# Altium footprint library PCB_LED-Matrix2.PcbLib: 4 footprints
Each footprint in its own frame and in the unit in brackets; x right, y up, seen from the top. Pads: shape width x height; smd on the part's side, far side on the other; paste and mask are expansions set on the pad; w line width, h text height; cw(c..) or ccw(c..) is an arc to the next point about the centre after c.
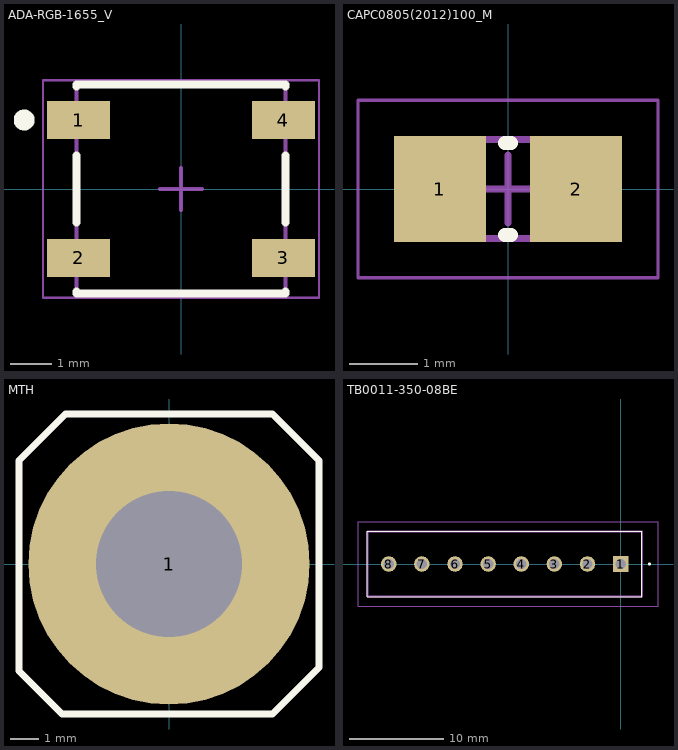
[diagram p0: the footprints below, top view; thin cyan lines are the x and y axes]

## ADA-RGB-1655_V [mm] "SMD, 4-Leads, Body 5x5mm"
pads (4):
  rect 1.5x0.9 smd: 1(-2.45,1.65) 2(-2.45,-1.65) 3(2.45,-1.65) 4(2.45,1.65)
Top Overlay:
  circle w0.25: c-3.75,1.65 r0.125
  lines w0.2: -2.5,-2.45 -2.5,-2.5 2.5,-2.5 2.5,-2.45 ; -2.5,-0.8 -2.5,0.8 ; -2.5,2.45 -2.5,2.5 2.5,2.5 2.5,2.45 ; 2.5,-0.8 2.5,0.8
Mechanical 13:
  lines w0.1: -2.5,-2.5 2.5,-2.5 2.5,2.5 -2.5,2.5 -2.5,-2.5
Mechanical 15:
  lines w0.05: -3.3,-2.6 -3.3,2.6 3.3,2.6 3.3,-2.6 -3.3,-2.6
  lines w0.1: -0.5,0 0.5,0 ; 0,-0.5 0,0.5
3D body "User Library-WS2812B.STEP": height 1.68, standoff -0.02, extent -2.7,-2.5 2.7,2.5

## CAPC0805(2012)100_M [mm] "Chip Capacitor, Body 2.0x1.2mm, Height 1.0mm, IPC Low Density"
height 1
pads (2):
  rect 1.35x1.55 smd: 1(-1,0) 2(1,0)
Top Overlay:
  lines w0.2: -0.05,-0.675 0.05,-0.675 ; -0.05,0.675 0.05,0.675
Mechanical 13:
  lines w0.1: -1.1,-0.725 -1.1,0.725 1.1,0.725 1.1,-0.725 -1.1,-0.725
Mechanical 15:
  lines w0.05: -2.2,-1.3 -2.2,1.3 2.2,1.3 2.2,-1.3 -2.2,-1.3
  lines w0.1: -0.5,0 0.5,0 ; 0,-0.5 0,0.5
3D body: height 1, standoff 0, extent -0.6,-0.725 0.6,0.725
3D body: height 1, standoff 0, extent -1.1,-0.725 -0.6,0.725
3D body: height 1, standoff 0, extent 0.6,-0.725 1.1,0.725

## MTH [mm]
pads (1):
  round 10 hole 5.2: 1(0,0)
Top Overlay:
  lines w0.254: -5.334,-3.81 -3.81,-5.334 3.683,-5.334 5.334,-3.683 5.334,3.683 3.683,5.334 1.143,5.334 -3.683,5.334 -5.334,3.683 -5.334,-3.81

## TB0011-350-08BE [mm]
pads (8):
  rect 1.65x1.65 hole 1.1: 1(0,0)
  round 1.65 hole 1.1: 2(-3.5,0) 3(-7,0) 4(-10.5,0) 5(-14,0) 6(-17.5,0) 7(-21,0) 8(-24.5,0)
Top Overlay:
  circle w0.2: c3.05,0 r0.05
  lines w0.1: -26.75,-3.45 2.25,-3.45 2.25,3.45 -26.75,3.45 -26.75,-3.45
Mechanical 13:
  lines w0.2: -26.75,-3.45 2.25,-3.45 2.25,3.45 -26.75,3.45 -26.75,-3.45
Mechanical 15:
  lines w0.05: -27.75,-4.45 3.95,-4.45 3.95,4.45 -27.75,4.45 -27.75,-4.45
3D body "TB0011-350-08BE.stp": height 8.5, standoff -3.4, extent -26.82,-3.45 2.18,3.45